# EAGLE library part LMZ14202 (library LD1117S33TR)
LMZ14202/LMZ14203 2A/3A Switching Regulator datasheet.pdf <http://www.ti.com/lit/ds/symlink/lmz14203h.pdf> The Texas Instruments LMZ14203H SIMPLE SWITCHER® power module is an easy-to-use step-down DC-DC solution that can drive up to 3-A load with exceptional power conversion efficiency, line and load regulation, and output accuracy. The LMZ14203H is available in an innovative package that enhances thermal performance and allows for hand or machine soldering. The LMZ14203H can accept an input voltage rail between 6 V and 42 V and deliver an adjustable and highly accurate output voltage as low as 5 V. The LMZ14203H only requires three external resistors and four external capacitors to complete the power solution. The LMZ14203H is a reliable and robust design with the following protection features: thermal shutdown, input undervoltage lockout, output overvoltage protection, short-circuit protection, output current limit, and allows start-up into a prebiased output. A single resistor adjusts the switching frequency up to 1 MHz. Features Integrated Shielded Inductor Simple PCB Layout Flexible Start-Up Sequencing Using External Soft-Start and Precision Enable Protection Against Inrush Currents Input UVLO and Output Short-Circuit Protection 40°C to 125°C Junction Temperature Range Single Exposed Pad and Standard Pinout for Easy Mounting and Manufacturing Low Output Voltage Ripple Pin-to-Pin Compatible Family: LMZ14203H/2H/1H (42 V Maximum, 3-A, 2-A, 1-A) LMZ14203/2/1 (4 2V Maximum, 3-A, 2-A, 1-A) LMZ12003/2/1 (20 V Maximum, 3-A, 2-A, 1-A) Fully Enabled for WEBENCH® Power Designer Electrical Specifications Up to 3-A Output Current Input Voltage Range 6 V to 42 V Output Voltage as Low as 5 V Efficiency up to 97% Performance Benefits High Efficiency Reduces System Heat Generation Low Radiated EMI (EN 55022 Class B Tested) No Compensation Required Low Package Thermal Resistance
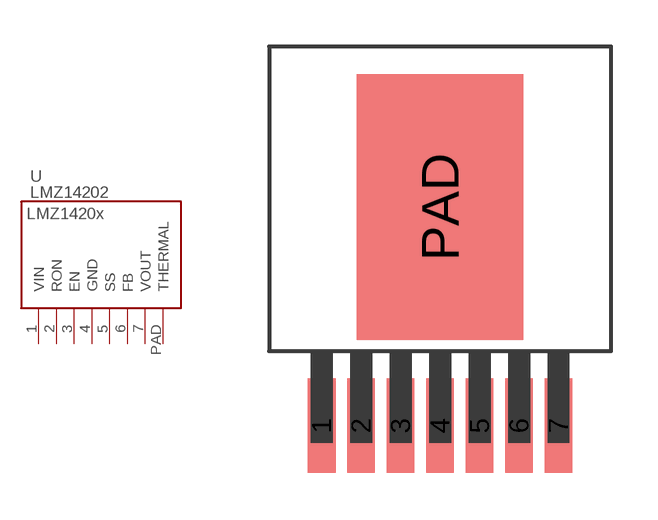
[diagram p1: symbol with the pads of TO-PMOD; footprint TO-PMOD]

Designator prefix U

## LMZ14202  [TO-PMOD]
1  VIN
2  RON
3  EN
4  GND
5  SS
6  FB
7  VOUT
PAD  THERMAL

## Footprint TO-PMOD (pad centres in mm)
smd 0.889 x 3.048: 1 -3.81,0; 2 -2.54,0; 3 -1.27,0; 4 0,0; 5 1.27,0; 6 2.54,0; 7 3.81,0
smd 5.35 x 8.54: PAD 0,7.035